# Altium footprint library Connectors.PcbLib: 6 footprints
Each footprint in its own frame and in the unit in brackets; x right, y up, seen from the top. Pads: shape width x height; smd on the part's side, far side on the other; paste and mask are expansions set on the pad; w line width, h text height; cw(c..) or ccw(c..) is an arc to the next point about the centre after c.
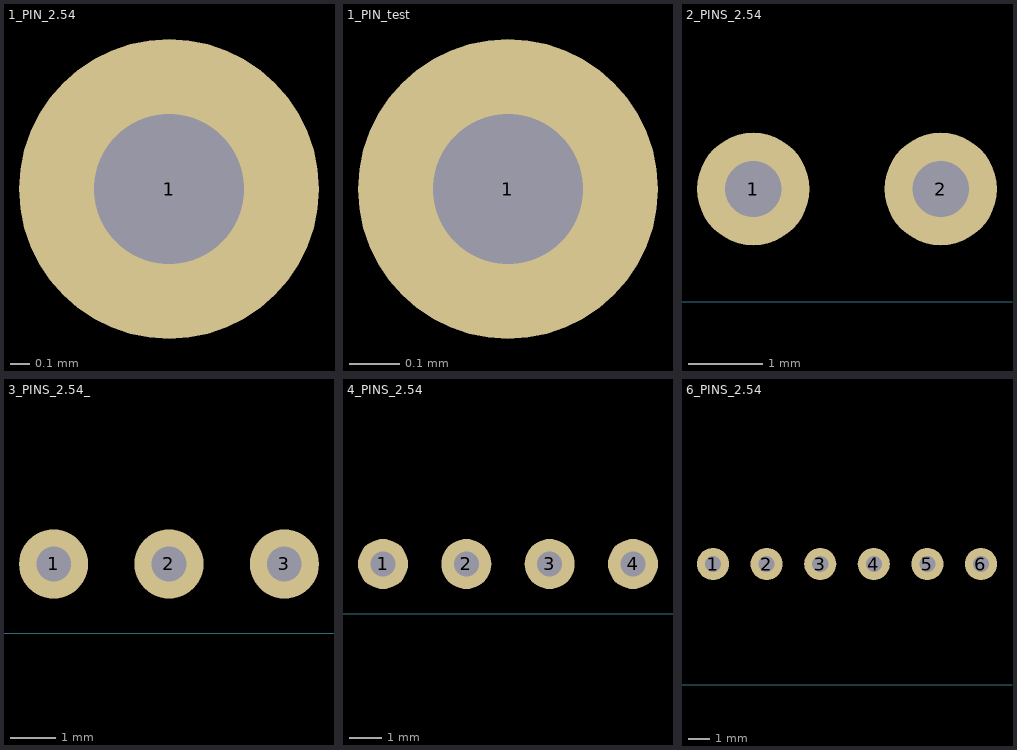
[diagram p0: the footprints below, top view; thin cyan lines are the x and y axes]

## 1_PIN_2.54 [mil]
pads (1):
  round 60 hole 30: 1(330,60)

## 1_PIN_test [mm]
pads (1):
  round 0.6 hole 0.3: 1(8.382,1.524)

## 2_PINS_2.54 [mil]
pads (2):
  round 60 hole 30: 1(330,60) 2(430,60)

## 3_PINS_2.54_ [mil]
pads (3):
  round 60 hole 30: 1(330,60) 2(430,60) 3(530,60)

## 4_PINS_2.54 [mil]
pads (4):
  round 60 hole 30: 1(330,60) 2(430,60) 3(530,60) 4(630,60)

## 6_PINS_2.54 [mil]
pads (6):
  round 60 hole 30: 1(355,225) 2(455,225) 3(555,225) 4(655,225) 5(755,225) 6(855,225)